# Altium schematic symbol library CANDLE-LIB.SchLib: 37 symbols
Pins are listed as number, name and electrical type; pins without a type are passive.

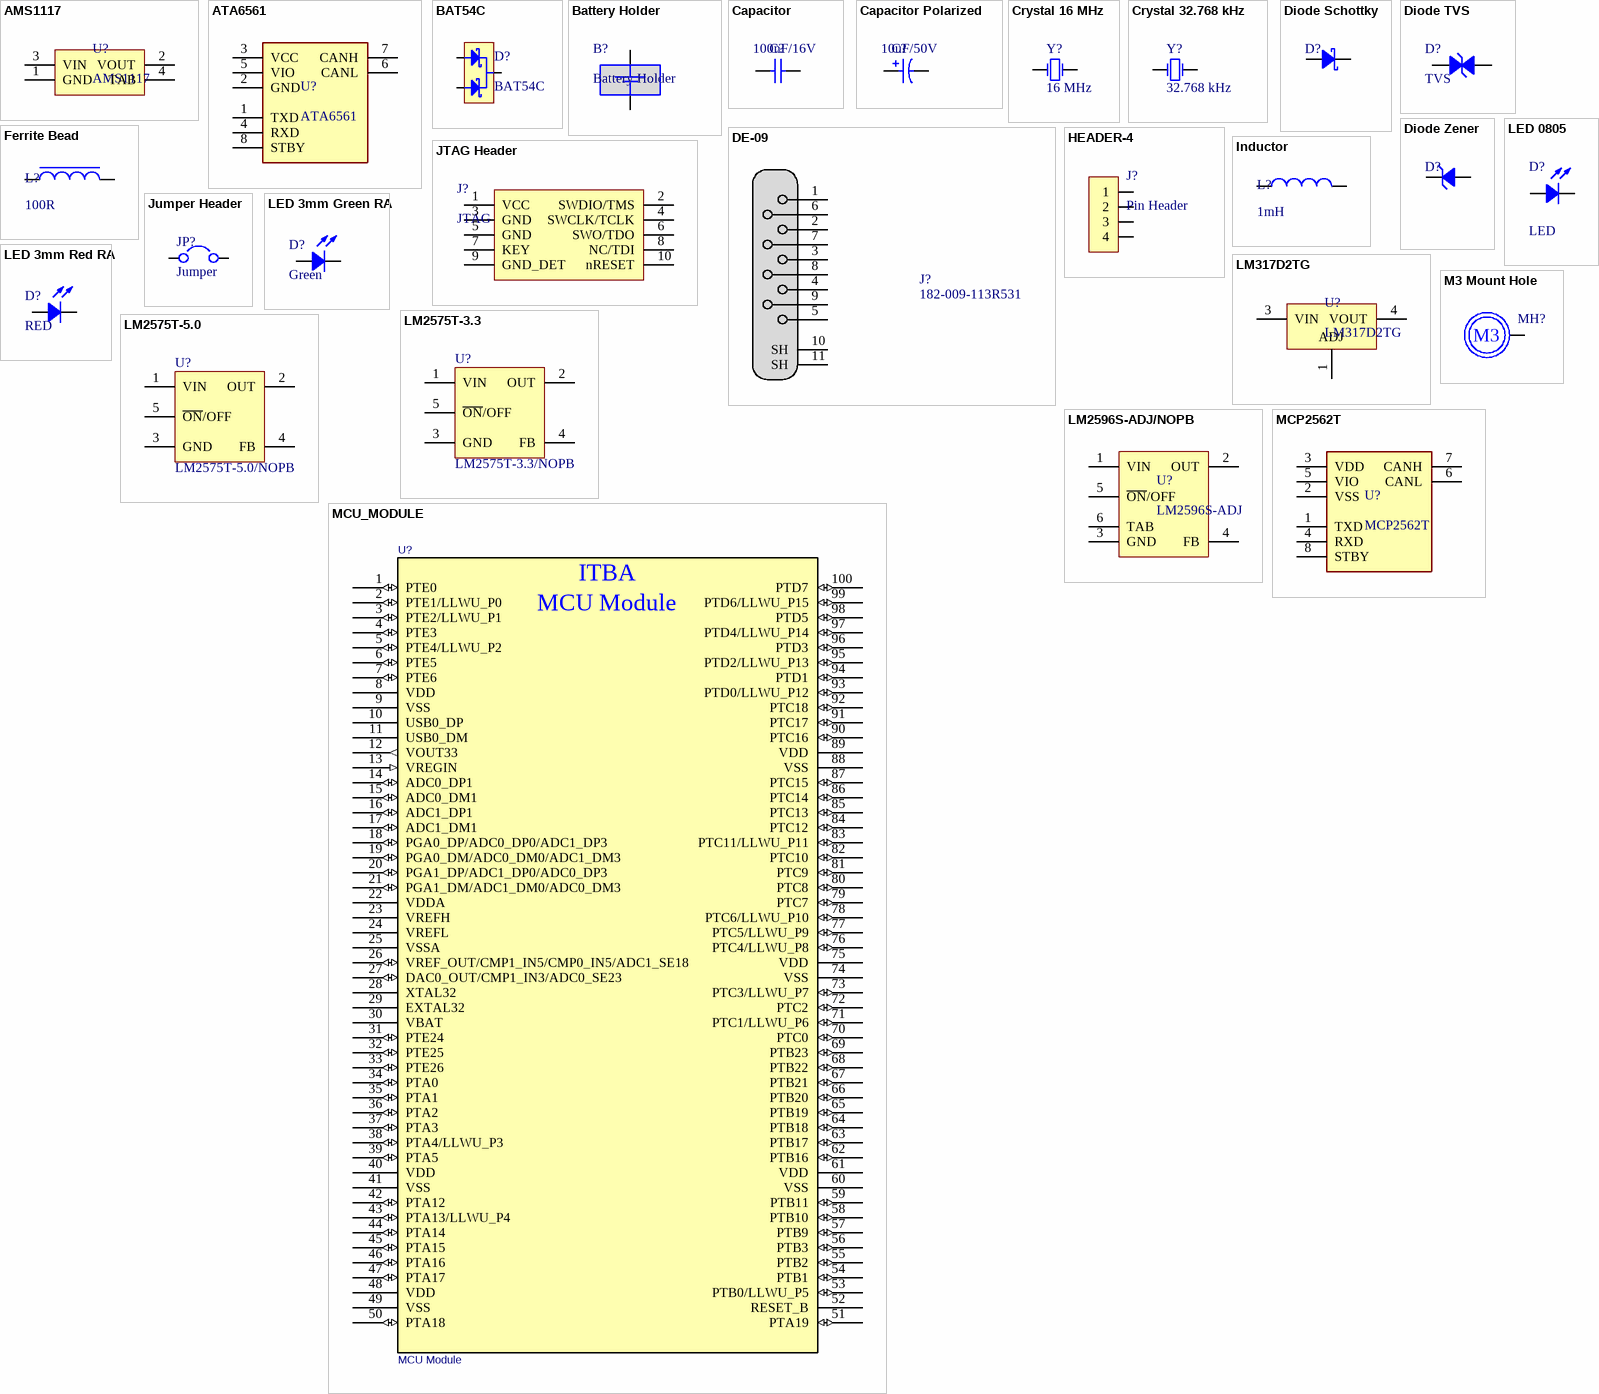
[diagram p0: symbols AMS1117 to MCU_MODULE]

## AMS1117
designator U?
1A LOW DROPOUT VOLTAGE REGULATOR
footprint SOT223
pins: 1 GND, 2 VOUT (power), 3 VIN (power), 4 TAB (power)

## ATA6561
designator U?
High-Speed CAN Transceiver with Standby Mode CAN FD Ready
pins: 1 TXD "Source", 2 GND "Source", 3 VCC "Source", 4 RXD "Source", 5 VIO "Source", 6 CANL "Source", 7 CANH "Source", 8 STBY "Source"

## BAT54C
designator D?
Dual Small Signal Schottky Diodes, Common cathode
footprint SOT23 (SOT23, 3-Leads, Body 1.3x2.9mm, Pitch 0.95mm)
pins: 1, 2, 3

## Battery Holder
designator B?
footprint COIN_CELL_HOLDER (BH-25C-1)
pins: 1 "Source", 2 "Source"

## Capacitor
designator C?, comment 100nF/16V
SMD 0805 Capacitor
footprint CAP0805 (Pasivo 0805)
pins: 1, 2

## Capacitor Polarized
designator C?, comment 10uF/50V
Polarized Capacitor (Radial)
footprint RAD-CAP-12.5/5mm (Radial CAP - 12.5mm Dia x 5mm spacing)
pins: 1, 2
1 alternate drawing of the same symbol

## Crystal 16 MHz
designator Y?, comment 16 MHz
Crystal Oscillator HS-49S
footprint XTAL-HC-49S (Crystal HC-49S)
pins: 1 OSC1, 2 OSC2

## Crystal 32.768 kHz
designator Y?, comment 32.768 kHz
Crystal Oscillator - Radial 3x8mm
footprint XTAL-RAD-3X8 (Radial Crystal - 3.1mm Dia x 1.1mm spacing)
pins: 1 OSC1, 2 OSC2

## DE-09
designator J?, comment 182-009-113R531
Receptacle Assembly, 9 Position, Right Angle
footprint DE-9
footprint DE-9 - Female
pins: 1, 2, 3, 4, 5, 6, 7, 8, 9, 10 SH, 11 SH

## Diode Schottky
designator D?
Schottky Diode
footprint SOD-123 (SOD-123, 2-Leads, Body 2.7x1.6mm, Height 1.35mm)
pins: 1 A, 2 K

## Diode TVS
designator D?, comment TVS
TVS Diode
footprint DO-214AC (DO-214AC, 2-Leads, Body 4.5x2.79mm, IPC Low Density)
pins: 1 A1, 2 A2

## Diode Zener
designator D?
Zener Diode; Voltage: 3V
footprint DO-35
pins: 1 K, 2 A

## Ferrite Bead
designator L?, comment 100R
Ferrite Bead
footprint RES0805 (Pasivo 0805)
pins: 1, 2

## HEADER-4
designator J?, comment Pin Header
Pin Header 4-pos
footprint HEADER-4 (Pin Header 4-pos)
pins: 1, 2, 3, 4

## Inductor
designator L?, comment 1mH
Inductor
footprint DRQ127-INDUCTOR
pins: 1, 2

## JTAG Header
designator J?, comment JTAG
JTAG header
footprint JTAG-10PIN (10 pin JTAG header with male connector)
pins: 1 VCC "Source", 2 SWDIO/TMS "Source", 3 GND "Source", 4 SWCLK/TCLK "Source", 5 GND "Source", 6 SWO/TDO "Source", 7 KEY "Source", 8 NC/TDI "Source", 9 GND_DET "Source", 10 nRESET "Source"

## Jumper Header
designator JP?, comment Jumper
2.54mm 2 pin header and jumper
footprint JUMPER-HEADER
pins: 1 "Source", 2 "Source"

## LED 3mm Green RA
designator D?, comment Green
Green 3mm LED
footprint LED-3MM-GREEN-RA (LED 3mm Right Angle)
pins: 1 A, 2 K

## LED 3mm Red RA
designator D?, comment RED
Red 3mm LED
footprint LED-3MM-RED-RA (LED 3mm Right Angle)
pins: 1 A, 2 K

## LED 0805
designator D?, comment LED
LED 0805
footprint LED0805 (LED SMD 0805)
pins: 1 A, 2 K

## LM317D2TG
designator U?
Voltage Regulator, Adjustable Output, 1.5A
footprint TO-263 (D2-PAK, 4-Leads, Body 9.2x10.2mm, Pitch 2.54mm, Lead Span 15.4mm, IPC Medium Density)
pins: 1 ADJ, 3 VIN (power), 4 VOUT (power)

## LM2575T-3.3
designator U?, comment LM2575T-3.3/NOPB
SIMPLE SWITCHER® 1A Step-Down Voltage Regulator, 5-pin TO-220, Pb-Free
pins: 1 VIN (power), 2 OUT (power), 3 GND (power), 4 FB, 5 ~{ON}/OFF

## LM2575T-5.0
designator U?, comment LM2575T-5.0/NOPB
SIMPLE SWITCHER® 1A Step-Down Voltage Regulator, 5-pin TO-220, Pb-Free
pins: 1 VIN (power), 2 OUT (power), 3 GND (power), 4 FB, 5 ~{ON}/OFF

## LM2596S-ADJ/NOPB
designator U?, comment LM2596S-ADJ
SIMPLE SWITCHER® Power Converter 150 KHz 3A Step-Down Voltage Regulator, 5-pin TO-263, Pb-Free
footprint LM2596S-ADJ/NOPB (DPAK, 5-Leads, Body 10.65x9.65mm, Pitch 1.7mm, IPC Medium Density)
pins: 1 VIN (power), 2 OUT (power), 3 GND (power), 4 FB, 5 ~{ON}/OFF, 6 TAB

## M3 Mount Hole
designator MH?  (no BOM)
M3 Mounting Hole
footprint M3_MOUNTING_HOLE
pins: 1 TP "Source"
text: M3

## MCP2562T
designator U?
High-Speed CAN Transceiver
footprint 8-SOIC
pins: 1 TXD, 2 VSS, 3 VDD, 4 RXD, 5 VIO, 6 CANL, 7 CANH, 8 STBY

## MCU_MODULE
designator U?, comment MCU Module
ITBA Microcontroller module
footprint MCU_Module
pins: 1 PTE0 (io), 2 PTE1/LLWU_P0 (io), 3 PTE2/LLWU_P1 (io), 4 PTE3 (io), 5 PTE4/LLWU_P2 (io), 6 PTE5 (io), 7 PTE6 (io), 8 VDD (power), 9 VSS (power), 10 USB0_DP, 11 USB0_DM, 12 VOUT33 (out), 13 VREGIN (in), 14 ADC0_DP1 (io), 15 ADC0_DM1 (io), 16 ADC1_DP1 (io), 17 ADC1_DM1 (io), 18 PGA0_DP/ADC0_DP0/ADC1_DP3 (io), 19 PGA0_DM/ADC0_DM0/ADC1_DM3 (io), 20 PGA1_DP/ADC1_DP0/ADC0_DP3 (io), 21 PGA1_DM/ADC1_DM0/ADC0_DM3 (io), 22 VDDA (power), 23 VREFH (power), 24 VREFL (power), 25 VSSA (power), 26 VREF_OUT/CMP1_IN5/CMP0_IN5/ADC1_SE18 (io), 27 DAC0_OUT/CMP1_IN3/ADC0_SE23 (io), 28 XTAL32, 29 EXTAL32, 30 VBAT (power), 31 PTE24 (io), 32 PTE25 (io), 33 PTE26 (io), 34 PTA0 (io), 35 PTA1 (io), 36 PTA2 (io), 37 PTA3 (io), 38 PTA4/LLWU_P3 (io), 39 PTA5 (io), 40 VDD (power), 41 VSS (power), 42 PTA12 (io), 43 PTA13/LLWU_P4 (io), 44 PTA14 (io), 45 PTA15 (io), 46 PTA16 (io), 47 PTA17 (io), 48 VDD (power), 49 VSS (power), 50 PTA18 (io), 51 PTA19 (io), 52 RESET_B, 53 PTB0/LLWU_P5 (io), 54 PTB1 (io), 55 PTB2 (io), 56 PTB3 (io), 57 PTB9 (io), 58 PTB10 (io), 59 PTB11 (io), 60 VSS (power), 61 VDD (power), 62 PTB16 (io), 63 PTB17 (io), 64 PTB18 (io), 65 PTB19 (io), 66 PTB20 (io), 67 PTB21 (io), 68 PTB22 (io), 69 PTB23 (io), 70 PTC0 (io), 71 PTC1/LLWU_P6 (io), 72 PTC2 (io), 73 PTC3/LLWU_P7 (io), 74 VSS (power), 75 VDD (power), 76 PTC4/LLWU_P8 (io), 77 PTC5/LLWU_P9 (io), 78 PTC6/LLWU_P10 (io), 79 PTC7 (io), 80 PTC8 (io), 81 PTC9 (io), 82 PTC10 (io), 83 PTC11/LLWU_P11 (io), 84 PTC12 (io), 85 PTC13 (io), 86 PTC14 (io), 87 PTC15 (io), 88 VSS (power), 89 VDD (power), 90 PTC16 (io), 91 PTC17 (io), 92 PTC18 (io), 93 PTD0/LLWU_P12 (io), 94 PTD1 (io), 95 PTD2/LLWU_P13 (io), 96 PTD3 (io), 97 PTD4/LLWU_P14 (io), 98 PTD5 (io), 99 PTD6/LLWU_P15 (io), 100 PTD7 (io)
text: ITBA

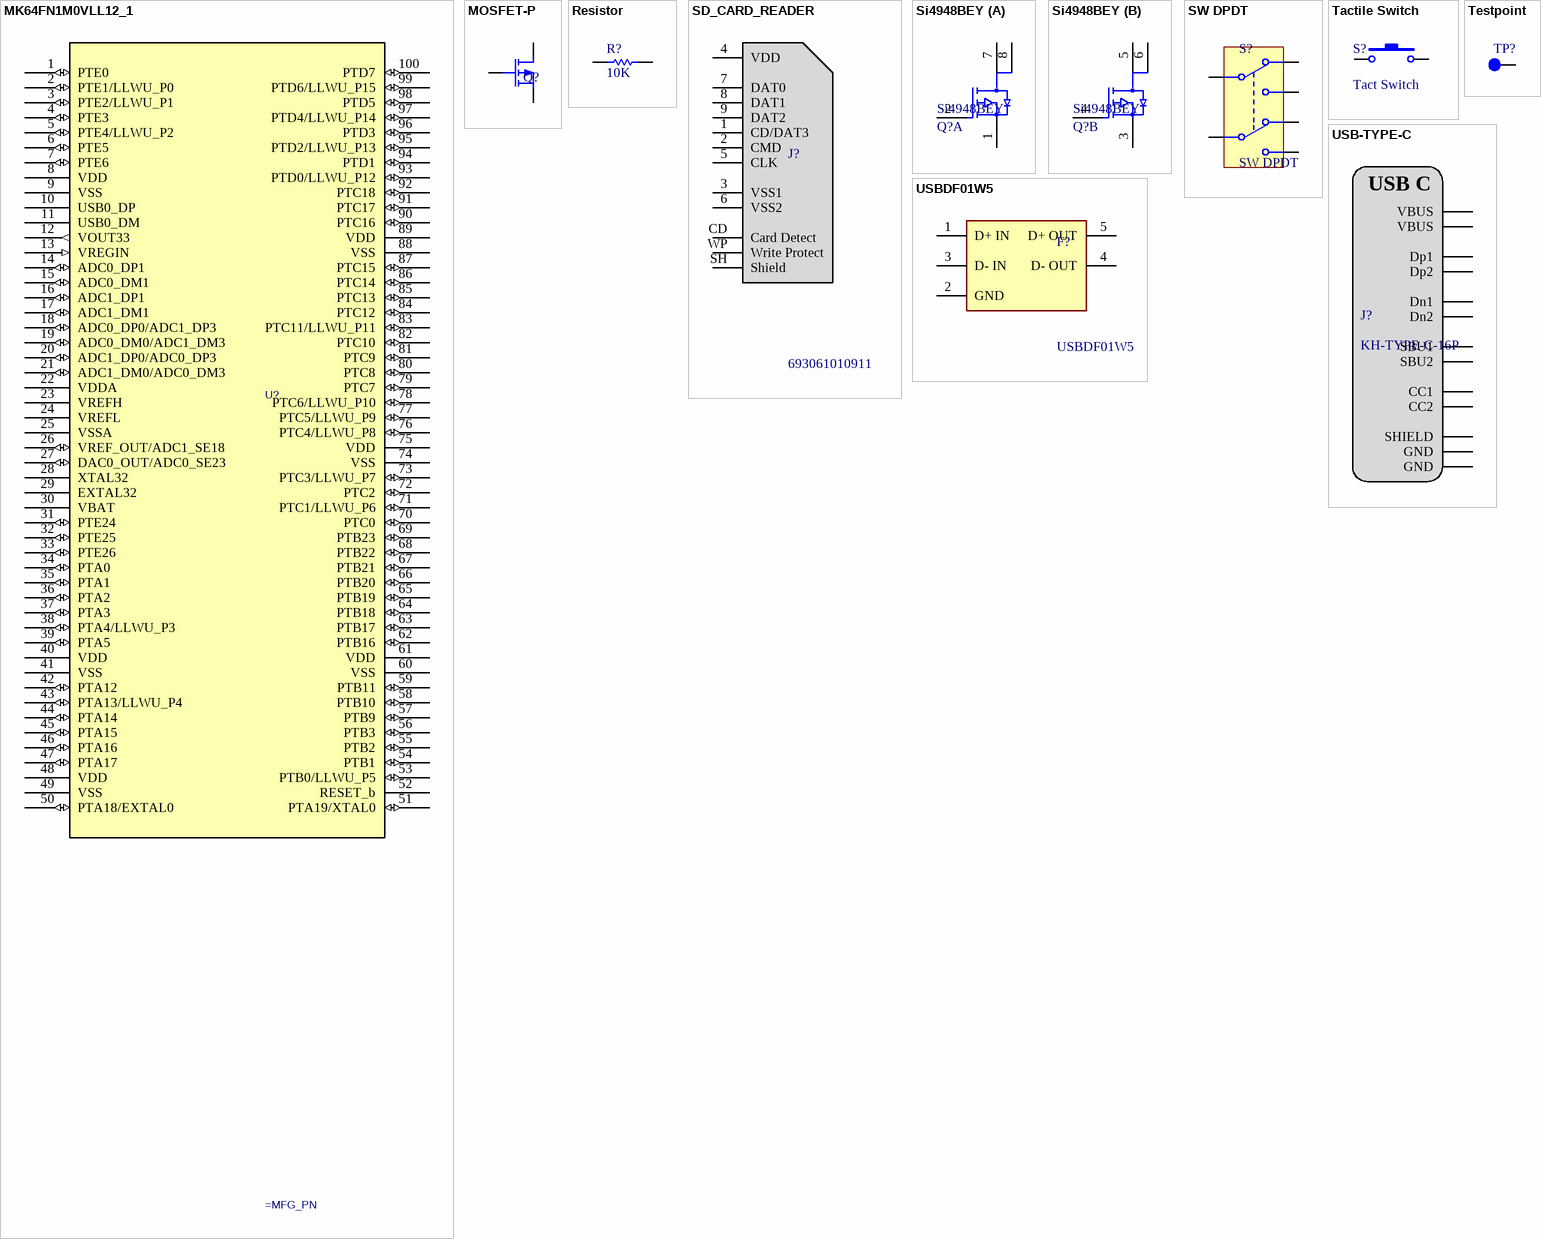
[diagram p1: symbols MK64FN1M0VLL12_1 to USBDF01W5]

## MK64FN1M0VLL12_1
designator U?
120 MHz ARM Cortex®-M4-based Microcontroller with FPU
footprint QFP50P1600X1600X160-100N (QFP,0.50mm pitch,square;100 pin,14.00mm L X 14.00mm W X 1.60mm H body)
pins: 1 PTE0 (io), 2 PTE1/LLWU_P0 (io), 3 PTE2/LLWU_P1 (io), 4 PTE3 (io), 5 PTE4/LLWU_P2 (io), 6 PTE5 (io), 7 PTE6 (io), 8 VDD (power), 9 VSS (power), 10 USB0_DP, 11 USB0_DM, 12 VOUT33 (out), 13 VREGIN (in), 14 ADC0_DP1 (io), 15 ADC0_DM1 (io), 16 ADC1_DP1 (io), 17 ADC1_DM1 (io), 18 ADC0_DP0/ADC1_DP3 (io), 19 ADC0_DM0/ADC1_DM3 (io), 20 ADC1_DP0/ADC0_DP3 (io), 21 ADC1_DM0/ADC0_DM3 (io), 22 VDDA (power), 23 VREFH (power), 24 VREFL (power), 25 VSSA (power), 26 VREF_OUT/ADC1_SE18 (io), 27 DAC0_OUT/ADC0_SE23 (io), 28 XTAL32, 29 EXTAL32, 30 VBAT (power), 31 PTE24 (io), 32 PTE25 (io), 33 PTE26 (io), 34 PTA0 (io), 35 PTA1 (io), 36 PTA2 (io), 37 PTA3 (io), 38 PTA4/LLWU_P3 (io), 39 PTA5 (io), 40 VDD (power), 41 VSS (power), 42 PTA12 (io), 43 PTA13/LLWU_P4 (io), 44 PTA14 (io), 45 PTA15 (io), 46 PTA16 (io), 47 PTA17 (io), 48 VDD (power), 49 VSS (power), 50 PTA18/EXTAL0 (io), 51 PTA19/XTAL0 (io), 52 RESET_b, 53 PTB0/LLWU_P5 (io), 54 PTB1 (io), 55 PTB2 (io), 56 PTB3 (io), 57 PTB9 (io), 58 PTB10 (io), 59 PTB11 (io), 60 VSS (power), 61 VDD (power), 62 PTB16 (io), 63 PTB17 (io), 64 PTB18 (io), 65 PTB19 (io), 66 PTB20 (io), 67 PTB21 (io), 68 PTB22 (io), 69 PTB23 (io), 70 PTC0 (io), 71 PTC1/LLWU_P6 (io), 72 PTC2 (io), 73 PTC3/LLWU_P7 (io), 74 VSS (power), 75 VDD (power), 76 PTC4/LLWU_P8 (io), 77 PTC5/LLWU_P9 (io), 78 PTC6/LLWU_P10 (io), 79 PTC7 (io), 80 PTC8 (io), 81 PTC9 (io), 82 PTC10 (io), 83 PTC11/LLWU_P11 (io), 84 PTC12 (io), 85 PTC13 (io), 86 PTC14 (io), 87 PTC15 (io), 88 VSS (power), 89 VDD (power), 90 PTC16 (io), 91 PTC17 (io), 92 PTC18 (io), 93 PTD0/LLWU_P12 (io), 94 PTD1 (io), 95 PTD2/LLWU_P13 (io), 96 PTD3 (io), 97 PTD4/LLWU_P14 (io), 98 PTD5 (io), 99 PTD6/LLWU_P15 (io), 100 PTD7 (io)

## MOSFET-P
designator Q?  (value not drawn)
P-Channel MOSFET
pins: 1 D, 2 G, 3 S

## Resistor
designator R?, comment 10K
SMD 0805 Resistor
footprint RES0805 (Pasivo 0805)
pins: 1, 2

## SD_CARD_READER
designator J?, comment 693061010911
SD Card Reader
footprint SD CARD CONNECTOR (SD-1-A)
pins: 1 CD/DAT3, 2 CMD, 3 VSS1, 4 VDD, 5 CLK, 6 VSS2, 7 DAT0, 8 DAT1, 9 DAT2, CD Card Detect, SH Shield, WP Write Protect

## Si4948BEY
designator Q?
MOSFET 2P-CH 60V 2.4A 8-SOIC
footprint 8-SOIC
part A pins: 1 S1, 2 G1, 7 D1, 8 D1
part B pins: 3 S2, 4 G2, 5 D2, 6 D2

## SW DPDT
designator S?
Switch
pins: 1 COMMON1, 2 NC1, 3 NO1, 4 NC2, 5 COMMON2, 6 NO2

## Tactile Switch
designator S?, comment Tact Switch
2-pin 6mm tactile switch (push-button)
footprint TACT SWITCH (2 pin pushbutton/tactile switch)
pins: 1, 2

## Testpoint
designator TP?  (no BOM)
Testpoint
footprint TP_SMD_Ø1.0mm
pins: 1 TP "Source"

## USB-TYPE-C
designator J?, comment KH-TYPE-C-16P
USB Connector Type C SMT 12 Pin
footprint USB4105-GF-A-060
pins: A1B12 GND, A4B9 VBUS, A5 CC1, A6 Dp1, A7 Dn1, A8 SBU1, B1A12 GND, B4A9 VBUS, B5 CC2, B6 Dp2, B7 Dn2, B8 SBU2, SH SHIELD
text: USB C

## USBDF01W5
designator F?
USBDF01W5 2-line EMI filter and ESD protection with R pull-up, for USB interfaces
pins: 1 D+ IN, 2 GND, 3 D- IN, 4 D- OUT, 5 D+ OUT